# Altium integrated library TI_Logic_Specialty_Logic.IntLib: 2504 symbols (part 50 of 81)
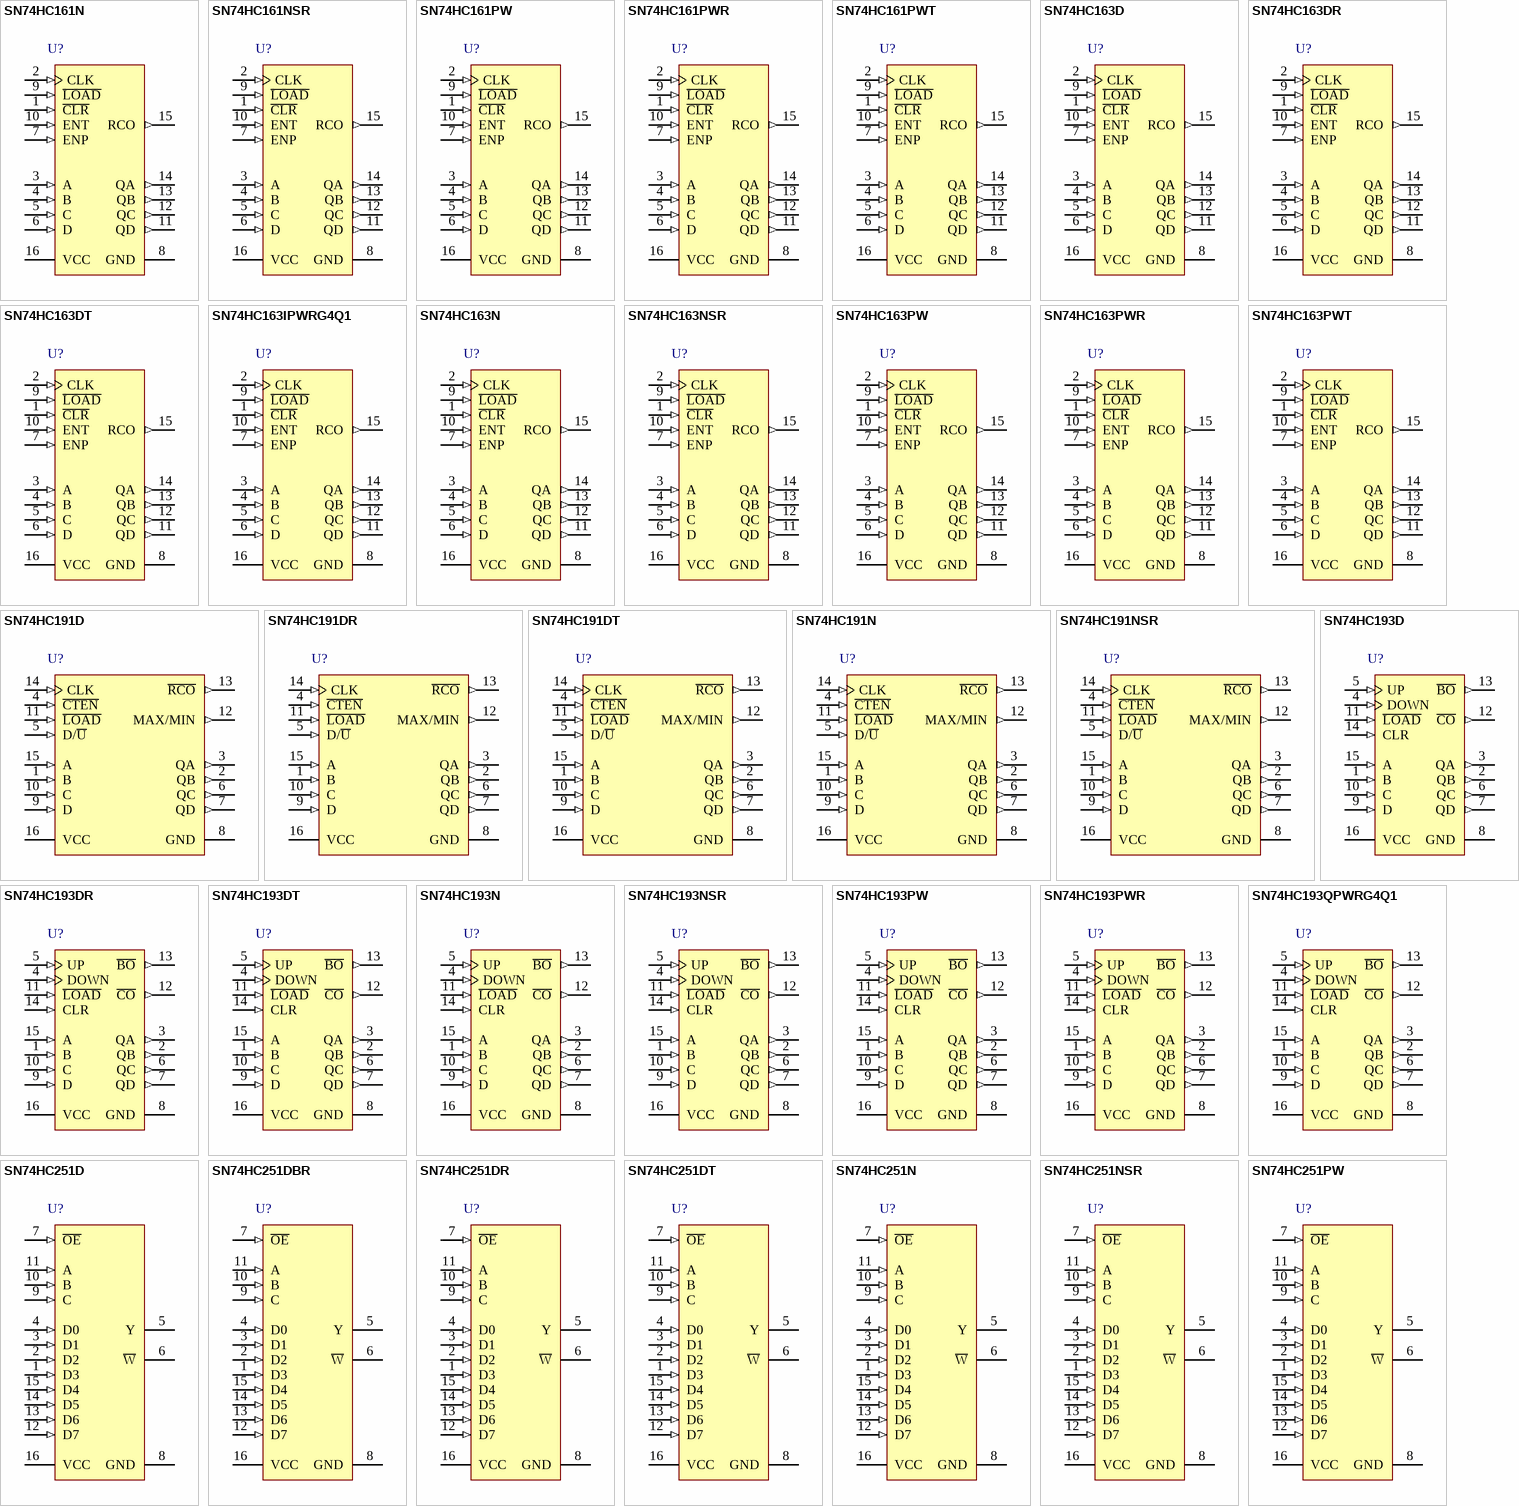
[diagram p153: symbols SN74HC161N to SN74HC251PW]

## SN74HC251DT
designator U?
Data Selectors/Multiplexers With 3-State Outputs, D0016A, SMALL T&R; Generic Part Number: SN74HC251; Manufacturer: Texas Instruments; PartNumber: SN74HC251DT; VCC(Min)(V): 2; VCC(Max)(V): 6; Output Type: CMOS; Function: Encoder/Multiplexer; ICC @ Nom Voltage(Max)(mA): 0.08; Input Type: LVTTL/CMOS; Bits(#): 8; F @ Nom Voltage(Max)(Mhz): 28; Configuration: 8：1; Channels(#): 1; Rating: Catalog; Technology Family: HC; Voltage(Nom)(V): 3.3,5; Schmitt Trigger: No; Output Drive (IOL/IOH)(Max)(mA): 7.8/-7.8; tpd @ Nom Voltage(Max)(ns): 51; DatasheetVersion: SCLS132E; PackageReference: D0016A; Supplier 1: Mouser; Supplier Part Number 1: 595-SN74HC251DT; Supplier 2: Digi-Key; Supplier Part Number 2: SN74HC251DT-ND; Operating Temperature Range(C): -40 to 85; Type: 3-State Output; Code_JEDEC: MS-012 variation AC; ComponentLink1Description: Manufacturer URL; ComponentLink1URL: http://www.ti.com/; ComponentLink2Description: Datasheet; ComponentLink2URL: http://www.ti.com/lit/ds/symlink/sn74hc251.pdf; ComponentLink3Description: Package Specification; ComponentLink3URL: http://www.ti.com/lit/ml/mpds178g/mpds178g.pdf
footprint D0016A_N (SOIC, 16-Leads, Body 10x4mm, Pitch 1.27mm, IPC Medium Density)
footprint D0016A_M (SOIC, 16-Leads, Body 10x4mm, Pitch 1.27mm, IPC Low Density)
footprint D0016A_L (SOIC, 16-Leads, Body 10x4mm, Pitch 1.27mm, IPC High Density)
pins: 1 D3 (in), 2 D2 (in), 3 D1 (in), 4 D0 (in), 5 Y (hiz), 6 ~{W} (hiz), 7 ~{OE} (in), 8 GND (power), 9 C (in), 10 B (in), 11 A (in), 12 D7 (in), 13 D6 (in), 14 D5 (in), 15 D4 (in), 16 VCC (power)

## SN74HC251N
designator U?
Data Selectors/Multiplexers With 3-State Outputs, N0016A, TUBE; Generic Part Number: SN74HC251; Manufacturer: Texas Instruments; PartNumber: SN74HC251N; VCC(Min)(V): 2; VCC(Max)(V): 6; Output Type: CMOS; Function: Encoder/Multiplexer; ICC @ Nom Voltage(Max)(mA): 0.08; Input Type: LVTTL/CMOS; Bits(#): 8; F @ Nom Voltage(Max)(Mhz): 28; Configuration: 8：1; Channels(#): 1; Rating: Catalog; Technology Family: HC; Voltage(Nom)(V): 3.3,5; Schmitt Trigger: No; Output Drive (IOL/IOH)(Max)(mA): 7.8/-7.8; tpd @ Nom Voltage(Max)(ns): 51; DatasheetVersion: SCLS132E; PackageReference: N0016A; Supplier 1: Mouser; Supplier Part Number 1: 595-SN74HC251N; Supplier 2: Digi-Key; Supplier Part Number 2: 296-1585-5-ND; Operating Temperature Range(C): -40 to 85; Type: 3-State Output; Code_JEDEC: MS-001; ComponentLink1Description: Manufacturer URL; ComponentLink1URL: http://www.ti.com/; ComponentLink2Description: Datasheet; ComponentLink2URL: http://www.ti.com/lit/ds/symlink/sn74hc251.pdf; ComponentLink3Description: Package Specification; ComponentLink3URL: http://www.ti.com/lit/ml/mpdi002c/mpdi002c.pdf
footprint N0016A (DIP, 16-Leads, Body 19.7x6.6mm, Pitch 2.54mm)
pins: 1 D3 (in), 2 D2 (in), 3 D1 (in), 4 D0 (in), 5 Y (hiz), 6 ~{W} (hiz), 7 ~{OE} (in), 8 GND (power), 9 C (in), 10 B (in), 11 A (in), 12 D7 (in), 13 D6 (in), 14 D5 (in), 15 D4 (in), 16 VCC (power)

## SN74HC251NSR
designator U?
Data Selectors/Multiplexers With 3-State Outputs, NS0016A, LARGE T&R; Generic Part Number: SN74HC251; Manufacturer: Texas Instruments; PartNumber: SN74HC251NSR; VCC(Min)(V): 2; VCC(Max)(V): 6; Output Type: CMOS; Function: Encoder/Multiplexer; ICC @ Nom Voltage(Max)(mA): 0.08; Input Type: LVTTL/CMOS; Bits(#): 8; F @ Nom Voltage(Max)(Mhz): 28; Configuration: 8：1; Channels(#): 1; Rating: Catalog; Technology Family: HC; Voltage(Nom)(V): 3.3,5; Schmitt Trigger: No; Output Drive (IOL/IOH)(Max)(mA): 7.8/-7.8; tpd @ Nom Voltage(Max)(ns): 51; DatasheetVersion: SCLS132E; PackageReference: NS0016A; Supplier 1: Mouser; Supplier Part Number 1: 595-SN74HC251NSR; Supplier 2: Digi-Key; Supplier Part Number 2: 296-13217-2-ND; Supplier 3: Digi-Key; Supplier Part Number 3: 296-13217-1-ND; Supplier 4: Digi-Key; Supplier Part Number 4: 296-13217-6-ND; Operating Temperature Range(C): -40 to 85; Type: 3-State Output; ComponentLink1Description: Manufacturer URL; ComponentLink1URL: http://www.ti.com/; ComponentLink2Description: Datasheet; ComponentLink2URL: http://www.ti.com/lit/ds/symlink/sn74hc251.pdf; ComponentLink3Description: Package Specification; ComponentLink3URL: http://www.ti.com/lit/ml/msop002a/msop002a.pdf
footprint NS0016A_N (SOIC,16-Leads,Body 10.5x5.6mm,Pitch 1.27mm,IPC Medium Density)
footprint NS0016A_M (SOIC,16-Leads,Body 10.5x5.6mm,Pitch 1.27mm,IPC Low Density)
footprint NS0016A_L (SOIC,16-Leads,Body 10.5x5.6mm,Pitch 1.27mm,IPC High Density)
pins: 1 D3 (in), 2 D2 (in), 3 D1 (in), 4 D0 (in), 5 Y (hiz), 6 ~{W} (hiz), 7 ~{OE} (in), 8 GND (power), 9 C (in), 10 B (in), 11 A (in), 12 D7 (in), 13 D6 (in), 14 D5 (in), 15 D4 (in), 16 VCC (power)

## SN74HC251PW
designator U?
Data Selectors/Multiplexers With 3-State Outputs, PW0016A, TUBE; Generic Part Number: SN74HC251; Manufacturer: Texas Instruments; PartNumber: SN74HC251PW; VCC(Min)(V): 2; VCC(Max)(V): 6; Output Type: CMOS; Function: Encoder/Multiplexer; ICC @ Nom Voltage(Max)(mA): 0.08; Input Type: LVTTL/CMOS; Bits(#): 8; F @ Nom Voltage(Max)(Mhz): 28; Configuration: 8：1; Channels(#): 1; Rating: Catalog; Technology Family: HC; Voltage(Nom)(V): 3.3,5; Schmitt Trigger: No; Output Drive (IOL/IOH)(Max)(mA): 7.8/-7.8; tpd @ Nom Voltage(Max)(ns): 51; DatasheetVersion: SCLS132E; PackageReference: PW0016A; Supplier 1: Mouser; Supplier Part Number 1: 595-SN74HC251PW; Supplier 2: Digi-Key; Supplier Part Number 2: 296-33929-5-ND; Operating Temperature Range(C): -40 to 85; Type: 3-State Output; Code_JEDEC: MO-153; ComponentLink1Description: Manufacturer URL; ComponentLink1URL: http://www.ti.com/; ComponentLink2Description: Datasheet; ComponentLink2URL: http://www.ti.com/lit/ds/symlink/sn74hc251.pdf; ComponentLink3Description: Package Specification; ComponentLink3URL: http://www.ti.com/lit/ml/mpds361/mpds361.pdf
footprint PW0016A_N (SOP, 16-Leads, Body 5.1x4.5mm, Pitch 0.65mm, IPC Medium Density)
footprint PW0016A_M (SOP, 16-Leads, Body 5.1x4.5mm, Pitch 0.65mm, IPC Low Density)
footprint PW0016A_L (SOP, 16-Leads, Body 5.1x4.5mm, Pitch 0.65mm, IPC High Density)
pins: 1 D3 (in), 2 D2 (in), 3 D1 (in), 4 D0 (in), 5 Y (hiz), 6 ~{W} (hiz), 7 ~{OE} (in), 8 GND (power), 9 C (in), 10 B (in), 11 A (in), 12 D7 (in), 13 D6 (in), 14 D5 (in), 15 D4 (in), 16 VCC (power)

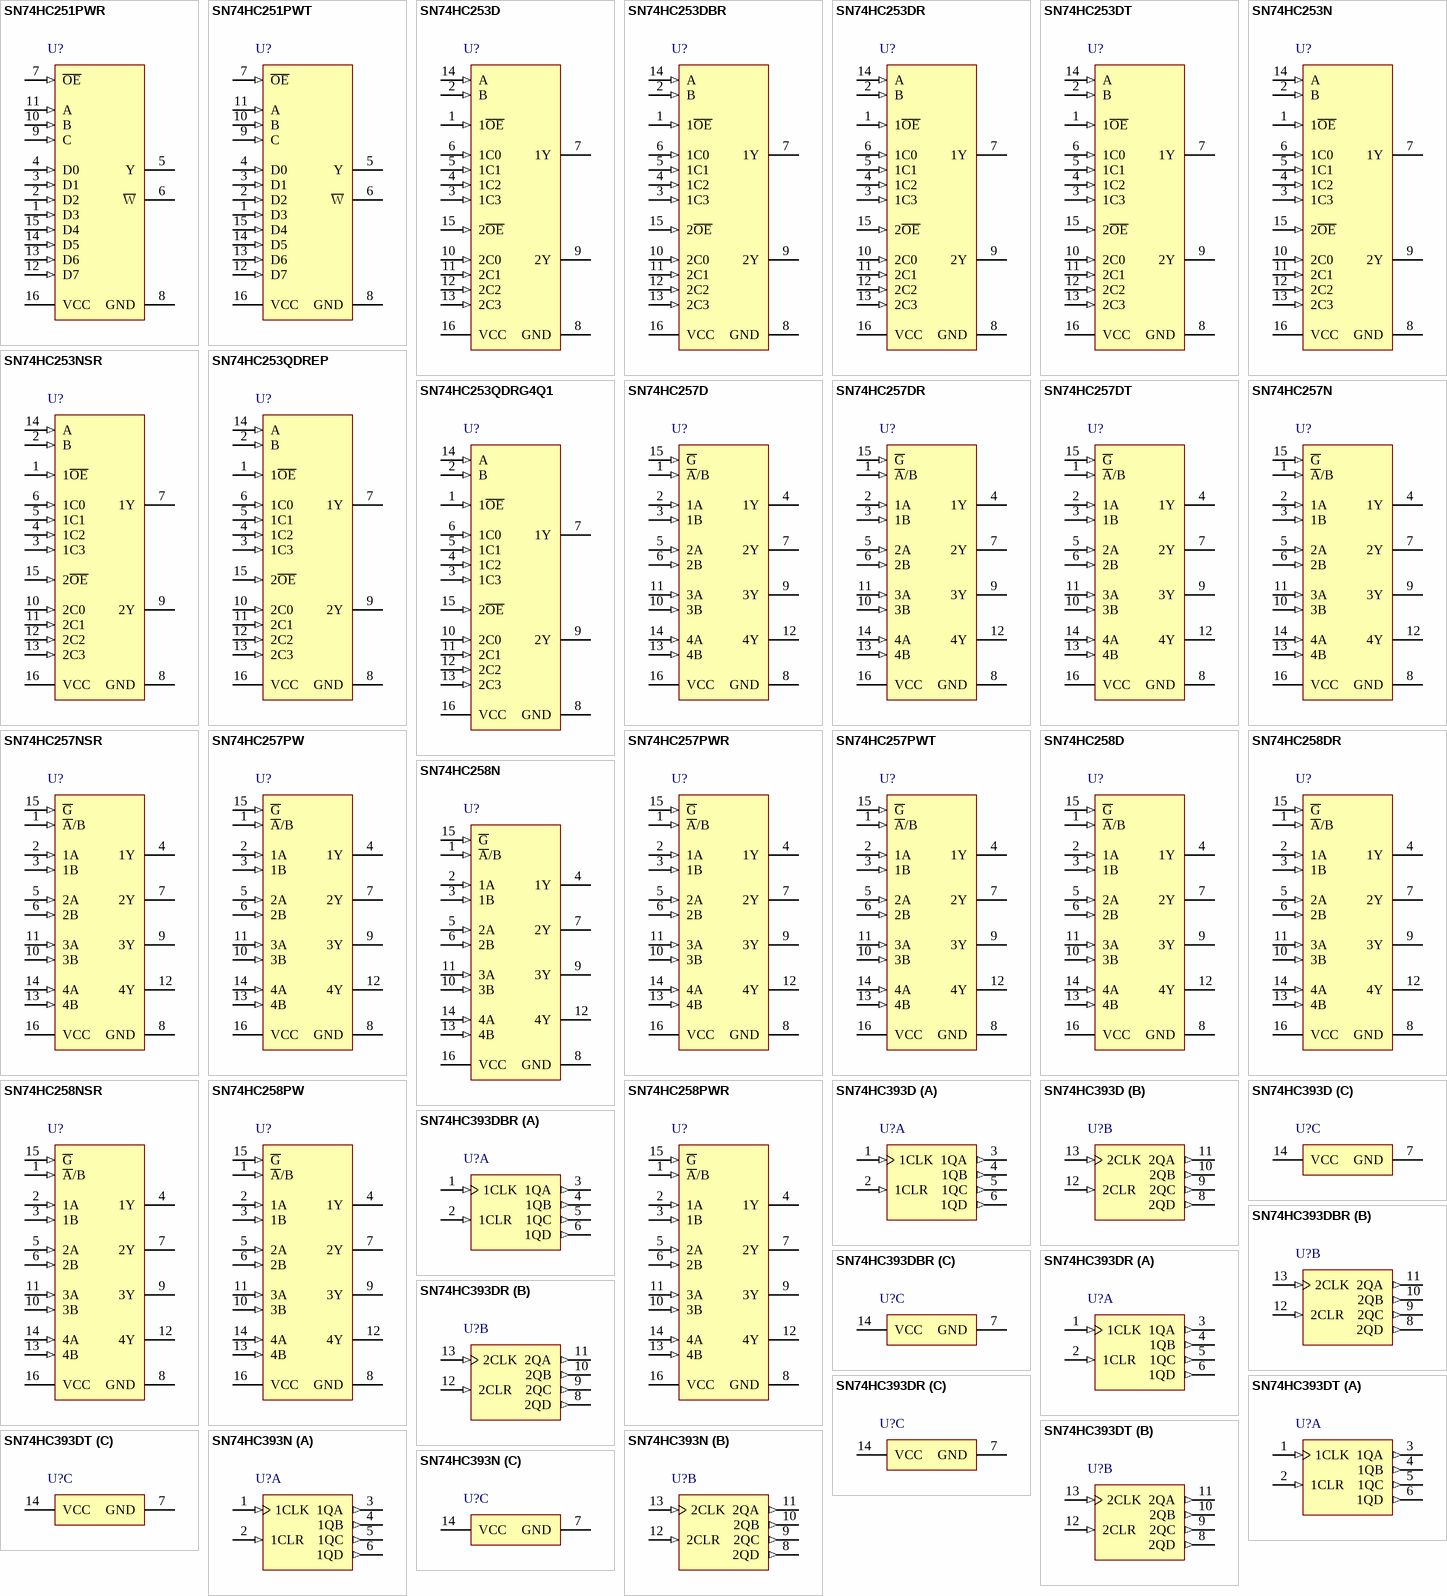
[diagram p63: symbols SN74HC251PWR to SN74HC393N]

## SN74HC251PWR
designator U?
Data Selectors/Multiplexers With 3-State Outputs, PW0016A, LARGE T&R; Generic Part Number: SN74HC251; Manufacturer: Texas Instruments; PartNumber: SN74HC251PWR; VCC(Min)(V): 2; VCC(Max)(V): 6; Output Type: CMOS; Function: Encoder/Multiplexer; ICC @ Nom Voltage(Max)(mA): 0.08; Input Type: LVTTL/CMOS; Bits(#): 8; F @ Nom Voltage(Max)(Mhz): 28; Configuration: 8：1; Channels(#): 1; Rating: Catalog; Technology Family: HC; Voltage(Nom)(V): 3.3,5; Schmitt Trigger: No; Output Drive (IOL/IOH)(Max)(mA): 7.8/-7.8; tpd @ Nom Voltage(Max)(ns): 51; DatasheetVersion: SCLS132E; PackageReference: PW0016A; Supplier 1: Mouser; Supplier Part Number 1: 595-SN74HC251PWR; Supplier 2: Digi-Key; Supplier Part Number 2: 296-39203-2-ND; Supplier 3: Digi-Key; Supplier Part Number 3: 296-39203-1-ND; Supplier 4: Digi-Key; Supplier Part Number 4: 296-39203-6-ND; Operating Temperature Range(C): -40 to 85; Type: 3-State Output; Code_JEDEC: MO-153; ComponentLink1Description: Manufacturer URL; ComponentLink1URL: http://www.ti.com/; ComponentLink2Description: Datasheet; ComponentLink2URL: http://www.ti.com/lit/ds/symlink/sn74hc251.pdf; ComponentLink3Description: Package Specification; ComponentLink3URL: http://www.ti.com/lit/ml/mpds361/mpds361.pdf
footprint PW0016A_N (SOP, 16-Leads, Body 5.1x4.5mm, Pitch 0.65mm, IPC Medium Density)
footprint PW0016A_M (SOP, 16-Leads, Body 5.1x4.5mm, Pitch 0.65mm, IPC Low Density)
footprint PW0016A_L (SOP, 16-Leads, Body 5.1x4.5mm, Pitch 0.65mm, IPC High Density)
pins: 1 D3 (in), 2 D2 (in), 3 D1 (in), 4 D0 (in), 5 Y (hiz), 6 ~{W} (hiz), 7 ~{OE} (in), 8 GND (power), 9 C (in), 10 B (in), 11 A (in), 12 D7 (in), 13 D6 (in), 14 D5 (in), 15 D4 (in), 16 VCC (power)

## SN74HC251PWT
designator U?
Data Selectors/Multiplexers With 3-State Outputs, PW0016A, SMALL T&R; Generic Part Number: SN74HC251; Manufacturer: Texas Instruments; PartNumber: SN74HC251PWT; VCC(Min)(V): 2; VCC(Max)(V): 6; Output Type: CMOS; Function: Encoder/Multiplexer; ICC @ Nom Voltage(Max)(mA): 0.08; Input Type: LVTTL/CMOS; Bits(#): 8; F @ Nom Voltage(Max)(Mhz): 28; Configuration: 8：1; Channels(#): 1; Rating: Catalog; Technology Family: HC; Voltage(Nom)(V): 3.3,5; Schmitt Trigger: No; Output Drive (IOL/IOH)(Max)(mA): 7.8/-7.8; tpd @ Nom Voltage(Max)(ns): 51; DatasheetVersion: SCLS132E; PackageReference: PW0016A; Supplier 1: Mouser; Supplier Part Number 1: 595-SN74HC251PWT; Supplier 2: Digi-Key; Supplier Part Number 2: 296-28659-2-ND; Supplier 3: Digi-Key; Supplier Part Number 3: 296-28659-1-ND; Supplier 4: Digi-Key; Supplier Part Number 4: 296-28659-6-ND; Operating Temperature Range(C): -40 to 85; Type: 3-State Output; Code_JEDEC: MO-153; ComponentLink1Description: Manufacturer URL; ComponentLink1URL: http://www.ti.com/; ComponentLink2Description: Datasheet; ComponentLink2URL: http://www.ti.com/lit/ds/symlink/sn74hc251.pdf; ComponentLink3Description: Package Specification; ComponentLink3URL: http://www.ti.com/lit/ml/mpds361/mpds361.pdf
footprint PW0016A_N (SOP, 16-Leads, Body 5.1x4.5mm, Pitch 0.65mm, IPC Medium Density)
footprint PW0016A_M (SOP, 16-Leads, Body 5.1x4.5mm, Pitch 0.65mm, IPC Low Density)
footprint PW0016A_L (SOP, 16-Leads, Body 5.1x4.5mm, Pitch 0.65mm, IPC High Density)
pins: 1 D3 (in), 2 D2 (in), 3 D1 (in), 4 D0 (in), 5 Y (hiz), 6 ~{W} (hiz), 7 ~{OE} (in), 8 GND (power), 9 C (in), 10 B (in), 11 A (in), 12 D7 (in), 13 D6 (in), 14 D5 (in), 15 D4 (in), 16 VCC (power)

## SN74HC253D
designator U?
Dual 4-Line To 1-Line Data Selectors/Multiplexers With 3-State Outputs, D0016A, TUBE; Generic Part Number: SN74HC253; Manufacturer: Texas Instruments; PartNumber: SN74HC253D; VCC(Min)(V): 2; VCC(Max)(V): 6; Output Type: CMOS; Function: Encoder/Multiplexer; ICC @ Nom Voltage(Max)(mA): 0.08; Input Type: LVTTL/CMOS; Bits(#): 4; F @ Nom Voltage(Max)(Mhz): 28; Configuration: 4：1; Rating: Catalog; Technology Family: HC; Voltage(Nom)(V): 3.3,5; Schmitt Trigger: No; Output Drive (IOL/IOH)(Max)(mA): 7.8/-7.8; tpd @ Nom Voltage(Max)(ns): 38; DatasheetVersion: SCLS133E; PackageReference: D0016A; Supplier 1: Mouser; Supplier Part Number 1: 595-SN74HC253D; Supplier 2: Digi-Key; Supplier Part Number 2: 296-8281-5-ND; Operating Temperature Range(C): -40 to 85; Type: 3-State Output; Channels(#): 2; Code_JEDEC: MS-012 variation AC; ComponentLink1Description: Manufacturer URL; ComponentLink1URL: http://www.ti.com/; ComponentLink2Description: Datasheet; ComponentLink2URL: http://www.ti.com/lit/ds/symlink/sn74hc253.pdf; ComponentLink3Description: Package Specification; ComponentLink3URL: http://www.ti.com/lit/ml/mpds178g/mpds178g.pdf
footprint D0016A_N (SOIC, 16-Leads, Body 10x4mm, Pitch 1.27mm, IPC Medium Density)
footprint D0016A_M (SOIC, 16-Leads, Body 10x4mm, Pitch 1.27mm, IPC Low Density)
footprint D0016A_L (SOIC, 16-Leads, Body 10x4mm, Pitch 1.27mm, IPC High Density)
pins: 1 1~{OE} (in), 2 B (in), 3 1C3 (in), 4 1C2 (in), 5 1C1 (in), 6 1C0 (in), 7 1Y (hiz), 8 GND (power), 9 2Y (hiz), 10 2C0 (in), 11 2C1 (in), 12 2C2 (in), 13 2C3 (in), 14 A (in), 15 2~{OE} (in), 16 VCC (power)

## SN74HC253DBR
designator U?
Dual 4-Line To 1-Line Data Selectors/Multiplexers With 3-State Outputs, DB0016A, LARGE T&R; Generic Part Number: SN74HC253; Manufacturer: Texas Instruments; PartNumber: SN74HC253DBR; VCC(Min)(V): 2; VCC(Max)(V): 6; Output Type: CMOS; Function: Encoder/Multiplexer; ICC @ Nom Voltage(Max)(mA): 0.08; Input Type: LVTTL/CMOS; Bits(#): 4; F @ Nom Voltage(Max)(Mhz): 28; Configuration: 4：1; Rating: Catalog; Technology Family: HC; Voltage(Nom)(V): 3.3,5; Schmitt Trigger: No; Output Drive (IOL/IOH)(Max)(mA): 7.8/-7.8; tpd @ Nom Voltage(Max)(ns): 38; DatasheetVersion: SCLS133E; PackageReference: DB0016A; Supplier 1: Mouser; Supplier Part Number 1: 595-SN74HC253DBR; Supplier 2: Digi-Key; Supplier Part Number 2: 296-8282-2-ND; Supplier 3: Digi-Key; Supplier Part Number 3: 296-8282-1-ND; Supplier 4: Digi-Key; Supplier Part Number 4: 296-8282-6-ND; Operating Temperature Range(C): -40 to 85; Type: 3-State Output; Channels(#): 2; Code_JEDEC: MO-150; ComponentLink1Description: Manufacturer URL; ComponentLink1URL: http://www.ti.com/; ComponentLink2Description: Datasheet; ComponentLink2URL: http://www.ti.com/lit/ds/symlink/sn74hc253.pdf; ComponentLink3Description: Package Specification; ComponentLink3URL: http://www.ti.com/lit/ml/mpds507/mpds507.pdf
footprint DB0016A_N (SOP, 16-Leads, Body 5.6x6.5mm, Pitch 0.65mm, IPC Medium Density)
footprint DB0016A_M (SOP, 16-Leads, Body 5.6x6.5mm, Pitch 0.65mm, IPC Low Density)
footprint DB0016A_L (SOP, 16-Leads, Body 5.6x6.5mm, Pitch 0.65mm, IPC High Density)
pins: 1 1~{OE} (in), 2 B (in), 3 1C3 (in), 4 1C2 (in), 5 1C1 (in), 6 1C0 (in), 7 1Y (hiz), 8 GND (power), 9 2Y (hiz), 10 2C0 (in), 11 2C1 (in), 12 2C2 (in), 13 2C3 (in), 14 A (in), 15 2~{OE} (in), 16 VCC (power)

## SN74HC253DR
designator U?
Dual 4-Line To 1-Line Data Selectors/Multiplexers With 3-State Outputs, D0016A, LARGE T&R; Generic Part Number: SN74HC253; Manufacturer: Texas Instruments; PartNumber: SN74HC253DR; VCC(Min)(V): 2; VCC(Max)(V): 6; Output Type: CMOS; Function: Encoder/Multiplexer; ICC @ Nom Voltage(Max)(mA): 0.08; Input Type: LVTTL/CMOS; Bits(#): 4; F @ Nom Voltage(Max)(Mhz): 28; Configuration: 4：1; Rating: Catalog; Technology Family: HC; Voltage(Nom)(V): 3.3,5; Schmitt Trigger: No; Output Drive (IOL/IOH)(Max)(mA): 7.8/-7.8; tpd @ Nom Voltage(Max)(ns): 38; DatasheetVersion: SCLS133E; PackageReference: D0016A; Supplier 1: Mouser; Supplier Part Number 1: 595-SN74HC253DR; Supplier 2: Digi-Key; Supplier Part Number 2: 296-14845-2-ND; Supplier 3: Digi-Key; Supplier Part Number 3: 296-14845-1-ND; Supplier 4: Digi-Key; Supplier Part Number 4: 296-14845-6-ND; Operating Temperature Range(C): -40 to 85; Type: 3-State Output; Channels(#): 2; Code_JEDEC: MS-012 variation AC; ComponentLink1Description: Manufacturer URL; ComponentLink1URL: http://www.ti.com/; ComponentLink2Description: Datasheet; ComponentLink2URL: http://www.ti.com/lit/ds/symlink/sn74hc253.pdf; ComponentLink3Description: Package Specification; ComponentLink3URL: http://www.ti.com/lit/ml/mpds178g/mpds178g.pdf
footprint D0016A_N (SOIC, 16-Leads, Body 10x4mm, Pitch 1.27mm, IPC Medium Density)
footprint D0016A_M (SOIC, 16-Leads, Body 10x4mm, Pitch 1.27mm, IPC Low Density)
footprint D0016A_L (SOIC, 16-Leads, Body 10x4mm, Pitch 1.27mm, IPC High Density)
pins: 1 1~{OE} (in), 2 B (in), 3 1C3 (in), 4 1C2 (in), 5 1C1 (in), 6 1C0 (in), 7 1Y (hiz), 8 GND (power), 9 2Y (hiz), 10 2C0 (in), 11 2C1 (in), 12 2C2 (in), 13 2C3 (in), 14 A (in), 15 2~{OE} (in), 16 VCC (power)

## SN74HC253DT
designator U?
Dual 4-Line To 1-Line Data Selectors/Multiplexers With 3-State Outputs, D0016A, SMALL T&R; Generic Part Number: SN74HC253; Manufacturer: Texas Instruments; PartNumber: SN74HC253DT; VCC(Min)(V): 2; VCC(Max)(V): 6; Output Type: CMOS; Function: Encoder/Multiplexer; ICC @ Nom Voltage(Max)(mA): 0.08; Input Type: LVTTL/CMOS; Bits(#): 4; F @ Nom Voltage(Max)(Mhz): 28; Configuration: 4：1; Rating: Catalog; Technology Family: HC; Voltage(Nom)(V): 3.3,5; Schmitt Trigger: No; Output Drive (IOL/IOH)(Max)(mA): 7.8/-7.8; tpd @ Nom Voltage(Max)(ns): 38; DatasheetVersion: SCLS133E; PackageReference: D0016A; Supplier 1: Mouser; Supplier Part Number 1: 595-SN74HC253DT; Supplier 2: Digi-Key; Supplier Part Number 2: SN74HC253DT-ND; Operating Temperature Range(C): -40 to 85; Type: 3-State Output; Channels(#): 2; Code_JEDEC: MS-012 variation AC; ComponentLink1Description: Manufacturer URL; ComponentLink1URL: http://www.ti.com/; ComponentLink2Description: Datasheet; ComponentLink2URL: http://www.ti.com/lit/ds/symlink/sn74hc253.pdf; ComponentLink3Description: Package Specification; ComponentLink3URL: http://www.ti.com/lit/ml/mpds178g/mpds178g.pdf
footprint D0016A_N (SOIC, 16-Leads, Body 10x4mm, Pitch 1.27mm, IPC Medium Density)
footprint D0016A_M (SOIC, 16-Leads, Body 10x4mm, Pitch 1.27mm, IPC Low Density)
footprint D0016A_L (SOIC, 16-Leads, Body 10x4mm, Pitch 1.27mm, IPC High Density)
pins: 1 1~{OE} (in), 2 B (in), 3 1C3 (in), 4 1C2 (in), 5 1C1 (in), 6 1C0 (in), 7 1Y (hiz), 8 GND (power), 9 2Y (hiz), 10 2C0 (in), 11 2C1 (in), 12 2C2 (in), 13 2C3 (in), 14 A (in), 15 2~{OE} (in), 16 VCC (power)

## SN74HC253N
designator U?
Dual 4-Line To 1-Line Data Selectors/Multiplexers With 3-State Outputs, N0016A, TUBE; Generic Part Number: SN74HC253; Manufacturer: Texas Instruments; PartNumber: SN74HC253N; VCC(Min)(V): 2; VCC(Max)(V): 6; Output Type: CMOS; Function: Encoder/Multiplexer; ICC @ Nom Voltage(Max)(mA): 0.08; Input Type: LVTTL/CMOS; Bits(#): 4; F @ Nom Voltage(Max)(Mhz): 28; Configuration: 4：1; Rating: Catalog; Technology Family: HC; Voltage(Nom)(V): 3.3,5; Schmitt Trigger: No; Output Drive (IOL/IOH)(Max)(mA): 7.8/-7.8; tpd @ Nom Voltage(Max)(ns): 38; DatasheetVersion: SCLS133E; PackageReference: N0016A; Supplier 1: Mouser; Supplier Part Number 1: 595-SN74HC253N; Supplier 2: Digi-Key; Supplier Part Number 2: 296-8283-5-ND; Operating Temperature Range(C): -40 to 85; Type: 3-State Output; Channels(#): 2; Code_JEDEC: MS-001; ComponentLink1Description: Manufacturer URL; ComponentLink1URL: http://www.ti.com/; ComponentLink2Description: Datasheet; ComponentLink2URL: http://www.ti.com/lit/ds/symlink/sn74hc253.pdf; ComponentLink3Description: Package Specification; ComponentLink3URL: http://www.ti.com/lit/ml/mpdi002c/mpdi002c.pdf
footprint N0016A (DIP, 16-Leads, Body 19.7x6.6mm, Pitch 2.54mm)
pins: 1 1~{OE} (in), 2 B (in), 3 1C3 (in), 4 1C2 (in), 5 1C1 (in), 6 1C0 (in), 7 1Y (hiz), 8 GND (power), 9 2Y (hiz), 10 2C0 (in), 11 2C1 (in), 12 2C2 (in), 13 2C3 (in), 14 A (in), 15 2~{OE} (in), 16 VCC (power)

## SN74HC253NSR
designator U?
Dual 4-Line To 1-Line Data Selectors/Multiplexers With 3-State Outputs, NS0016A, LARGE T&R; Generic Part Number: SN74HC253; Manufacturer: Texas Instruments; PartNumber: SN74HC253NSR; VCC(Min)(V): 2; VCC(Max)(V): 6; Output Type: CMOS; Function: Encoder/Multiplexer; ICC @ Nom Voltage(Max)(mA): 0.08; Input Type: LVTTL/CMOS; Bits(#): 4; F @ Nom Voltage(Max)(Mhz): 28; Configuration: 4：1; Rating: Catalog; Technology Family: HC; Voltage(Nom)(V): 3.3,5; Schmitt Trigger: No; Output Drive (IOL/IOH)(Max)(mA): 7.8/-7.8; tpd @ Nom Voltage(Max)(ns): 38; DatasheetVersion: SCLS133E; PackageReference: NS0016A; Supplier 1: Mouser; Supplier Part Number 1: 595-SN74HC253NSR; Supplier 2: Digi-Key; Supplier Part Number 2: 296-28804-2-ND; Supplier 3: Digi-Key; Supplier Part Number 3: 296-28804-1-ND; Supplier 4: Digi-Key; Supplier Part Number 4: 296-28804-6-ND; Operating Temperature Range(C): -40 to 85; Type: 3-State Output; Channels(#): 2; ComponentLink1Description: Manufacturer URL; ComponentLink1URL: http://www.ti.com/; ComponentLink2Description: Datasheet; ComponentLink2URL: http://www.ti.com/lit/ds/symlink/sn74hc253.pdf; ComponentLink3Description: Package Specification; ComponentLink3URL: http://www.ti.com/lit/ml/msop002a/msop002a.pdf
footprint NS0016A_N (SOIC,16-Leads,Body 10.5x5.6mm,Pitch 1.27mm,IPC Medium Density)
footprint NS0016A_M (SOIC,16-Leads,Body 10.5x5.6mm,Pitch 1.27mm,IPC Low Density)
footprint NS0016A_L (SOIC,16-Leads,Body 10.5x5.6mm,Pitch 1.27mm,IPC High Density)
pins: 1 1~{OE} (in), 2 B (in), 3 1C3 (in), 4 1C2 (in), 5 1C1 (in), 6 1C0 (in), 7 1Y (hiz), 8 GND (power), 9 2Y (hiz), 10 2C0 (in), 11 2C1 (in), 12 2C2 (in), 13 2C3 (in), 14 A (in), 15 2~{OE} (in), 16 VCC (power)

## SN74HC253QDREP
designator U?
Enhanced Product Dual 4-Line To 1-Line Data Selectors/Multiplexers With 3-State Outputs, D0016A, LARGE T&R; Generic Part Number: SN74HC253-EP; Manufacturer: Texas Instruments; PartNumber: SN74HC253QDREP; VCC(Min)(V): 2; VCC(Max)(V): 6; ICC @ Nom Voltage(Max)(mA): 0.08; F @ Nom Voltage(Max)(Mhz): 28; Rating: HiRel Enhanced Product; Technology Family: HC; Schmitt Trigger: No; Output Drive (IOL/IOH)(Max)(mA): 7.8/-7/8; tpd @ Nom Voltage(Max)(ns): 38; DatasheetVersion: SCLS560; PackageReference: D0016A; Supplier 1: Mouser; Supplier Part Number 1: 595-SN74HC253QDREP; Supplier 2: Digi-Key; Supplier Part Number 2: 296-22302-2-ND; Supplier 3: Digi-Key; Supplier Part Number 3: 296-22302-1-ND; Supplier 4: Digi-Key; Supplier Part Number 4: 296-22302-6-ND; Operating Temperature Range(C): -40 to 125; Type: 3-State Output; Channels(#): 2; Voltage(Nom)(V): 6; Code_JEDEC: MS-012 variation AC; ComponentLink1Description: Manufacturer URL; ComponentLink1URL: http://www.ti.com/; ComponentLink2Description: Datasheet; ComponentLink2URL: http://www.ti.com/lit/ds/symlink/sn74hc253-ep.pdf; ComponentLink3Description: Package Specification; ComponentLink3URL: http://www.ti.com/lit/ml/mpds178g/mpds178g.pdf
footprint D0016A_N (SOIC, 16-Leads, Body 10x4mm, Pitch 1.27mm, IPC Medium Density)
footprint D0016A_M (SOIC, 16-Leads, Body 10x4mm, Pitch 1.27mm, IPC Low Density)
footprint D0016A_L (SOIC, 16-Leads, Body 10x4mm, Pitch 1.27mm, IPC High Density)
pins: 1 1~{OE} (in), 2 B (in), 3 1C3 (in), 4 1C2 (in), 5 1C1 (in), 6 1C0 (in), 7 1Y (hiz), 8 GND (power), 9 2Y (hiz), 10 2C0 (in), 11 2C1 (in), 12 2C2 (in), 13 2C3 (in), 14 A (in), 15 2~{OE} (in), 16 VCC (power)

## SN74HC253QDRG4Q1
designator U?
Automotive Catalog Dual 4-Line To 1-Line Data Selectors/Multiplexers With 3-State Outputs, D0016A, LARGE T&R; Generic Part Number: SN74HC253-Q1; Manufacturer: Texas Instruments; PartNumber: SN74HC253QDRG4Q1; VCC(Min)(V): 2; VCC(Max)(V): 6; Output Type: CMOS; ICC @ Nom Voltage(Max)(mA): 0.08; Input Type: LVTTL/CMOS; Bits(#): 4; F @ Nom Voltage(Max)(Mhz): 28; Technology Family: HC; Voltage(Nom)(V): 3.3,5; Schmitt Trigger: No; Output Drive (IOL/IOH)(Max)(mA): 7.8/-7/8; tpd @ Nom Voltage(Max)(ns): 38; DatasheetVersion: SCLS519A; PackageReference: D0016A; Supplier 1: Mouser; Supplier Part Number 1: 595-SN74HC253QDRG4Q1; Supplier 2: Digi-Key; Supplier Part Number 2: SN74HC253QDRG4Q1-ND; Operating Temperature Range(C): -40 to 125; Type: 3-State Output; Channels(#): 2; Rating: Automotive; Code_JEDEC: MS-012 variation AC; ComponentLink1Description: Manufacturer URL; ComponentLink1URL: http://www.ti.com/; ComponentLink2Description: Datasheet; ComponentLink2URL: http://www.ti.com/lit/ds/symlink/sn74hc253-q1.pdf; ComponentLink3Description: Package Specification; ComponentLink3URL: http://www.ti.com/lit/ml/mpds178g/mpds178g.pdf
footprint D0016A_N (SOIC, 16-Leads, Body 10x4mm, Pitch 1.27mm, IPC Medium Density)
footprint D0016A_M (SOIC, 16-Leads, Body 10x4mm, Pitch 1.27mm, IPC Low Density)
footprint D0016A_L (SOIC, 16-Leads, Body 10x4mm, Pitch 1.27mm, IPC High Density)
pins: 1 1~{OE} (in), 2 B (in), 3 1C3 (in), 4 1C2 (in), 5 1C1 (in), 6 1C0 (in), 7 1Y (hiz), 8 GND (power), 9 2Y (hiz), 10 2C0 (in), 11 2C1 (in), 12 2C2 (in), 13 2C3 (in), 14 A (in), 15 2~{OE} (in), 16 VCC (power)

## SN74HC257D
designator U?
Quadruple 2-Line To 1-Line Data Selectors/Multiplexers With 3-State Outputs, D0016A, TUBE; Generic Part Number: SN74HC257; Manufacturer: Texas Instruments; PartNumber: SN74HC257D; VCC(Min)(V): 2; VCC(Max)(V): 6; Output Type: CMOS; Function: Encoder/Multiplexer; ICC @ Nom Voltage(Max)(mA): 0.08; Input Type: LVTTL/CMOS; F @ Nom Voltage(Max)(Mhz): 28; Configuration: 2：1; Channels(#): 4; Rating: Catalog; Technology Family: HC; Voltage(Nom)(V): 3.3,5; Schmitt Trigger: No; Output Drive (IOL/IOH)(Max)(mA): 7.8/-7.8; tpd @ Nom Voltage(Max)(ns): 25; DatasheetVersion: SCLS224B; PackageReference: D0016A; Supplier 1: Mouser; Supplier Part Number 1: 595-SN74HC257D; Supplier 2: Digi-Key; Supplier Part Number 2: 296-8284-5-ND; Bits(#): 2; Operating Temperature Range(C): -40 to 85; Type: 3-State Output; Code_JEDEC: MS-012 variation AC; ComponentLink1Description: Manufacturer URL; ComponentLink1URL: http://www.ti.com/; ComponentLink2Description: Datasheet; ComponentLink2URL: http://www.ti.com/lit/ds/symlink/sn74hc257.pdf; ComponentLink3Description: Package Specification; ComponentLink3URL: http://www.ti.com/lit/ml/mpds178g/mpds178g.pdf
footprint D0016A_N (SOIC, 16-Leads, Body 10x4mm, Pitch 1.27mm, IPC Medium Density)
footprint D0016A_M (SOIC, 16-Leads, Body 10x4mm, Pitch 1.27mm, IPC Low Density)
footprint D0016A_L (SOIC, 16-Leads, Body 10x4mm, Pitch 1.27mm, IPC High Density)
pins: 1 ~{A}/B (in), 2 1A (in), 3 1B (in), 4 1Y (hiz), 5 2A (in), 6 2B (in), 7 2Y (hiz), 8 GND (power), 9 3Y (hiz), 10 3B (in), 11 3A (in), 12 4Y (hiz), 13 4B (in), 14 4A (in), 15 ~{G} (in), 16 VCC (power)

## SN74HC257DR
designator U?
Quadruple 2-Line To 1-Line Data Selectors/Multiplexers With 3-State Outputs, D0016A, LARGE T&R; Generic Part Number: SN74HC257; Manufacturer: Texas Instruments; PartNumber: SN74HC257DR; VCC(Min)(V): 2; VCC(Max)(V): 6; Output Type: CMOS; Function: Encoder/Multiplexer; ICC @ Nom Voltage(Max)(mA): 0.08; Input Type: LVTTL/CMOS; F @ Nom Voltage(Max)(Mhz): 28; Configuration: 2：1; Channels(#): 4; Rating: Catalog; Technology Family: HC; Voltage(Nom)(V): 3.3,5; Schmitt Trigger: No; Output Drive (IOL/IOH)(Max)(mA): 7.8/-7.8; tpd @ Nom Voltage(Max)(ns): 25; DatasheetVersion: SCLS224B; PackageReference: D0016A; Supplier 1: Mouser; Supplier Part Number 1: 595-SN74HC257DR; Supplier 2: Digi-Key; Supplier Part Number 2: 296-14846-2-ND; Supplier 3: Digi-Key; Supplier Part Number 3: 296-14846-1-ND; Supplier 4: Digi-Key; Supplier Part Number 4: 296-14846-6-ND; Bits(#): 2; Operating Temperature Range(C): -40 to 85; Type: 3-State Output; Code_JEDEC: MS-012 variation AC; ComponentLink1Description: Manufacturer URL; ComponentLink1URL: http://www.ti.com/; ComponentLink2Description: Datasheet; ComponentLink2URL: http://www.ti.com/lit/ds/symlink/sn74hc257.pdf; ComponentLink3Description: Package Specification; ComponentLink3URL: http://www.ti.com/lit/ml/mpds178g/mpds178g.pdf
footprint D0016A_N (SOIC, 16-Leads, Body 10x4mm, Pitch 1.27mm, IPC Medium Density)
footprint D0016A_M (SOIC, 16-Leads, Body 10x4mm, Pitch 1.27mm, IPC Low Density)
footprint D0016A_L (SOIC, 16-Leads, Body 10x4mm, Pitch 1.27mm, IPC High Density)
pins: 1 ~{A}/B (in), 2 1A (in), 3 1B (in), 4 1Y (hiz), 5 2A (in), 6 2B (in), 7 2Y (hiz), 8 GND (power), 9 3Y (hiz), 10 3B (in), 11 3A (in), 12 4Y (hiz), 13 4B (in), 14 4A (in), 15 ~{G} (in), 16 VCC (power)

## SN74HC257DT
designator U?
Quadruple 2-Line To 1-Line Data Selectors/Multiplexers With 3-State Outputs, D0016A, SMALL T&R; Generic Part Number: SN74HC257; Manufacturer: Texas Instruments; PartNumber: SN74HC257DT; VCC(Min)(V): 2; VCC(Max)(V): 6; Output Type: CMOS; Function: Encoder/Multiplexer; ICC @ Nom Voltage(Max)(mA): 0.08; Input Type: LVTTL/CMOS; F @ Nom Voltage(Max)(Mhz): 28; Configuration: 2：1; Channels(#): 4; Rating: Catalog; Technology Family: HC; Voltage(Nom)(V): 3.3,5; Schmitt Trigger: No; Output Drive (IOL/IOH)(Max)(mA): 7.8/-7.8; tpd @ Nom Voltage(Max)(ns): 25; DatasheetVersion: SCLS224B; PackageReference: D0016A; Supplier 1: Mouser; Supplier Part Number 1: 595-SN74HC257DT; Supplier 2: Digi-Key; Supplier Part Number 2: SN74HC257DT-ND; Bits(#): 2; Operating Temperature Range(C): -40 to 85; Type: 3-State Output; Code_JEDEC: MS-012 variation AC; ComponentLink1Description: Manufacturer URL; ComponentLink1URL: http://www.ti.com/; ComponentLink2Description: Datasheet; ComponentLink2URL: http://www.ti.com/lit/ds/symlink/sn74hc257.pdf; ComponentLink3Description: Package Specification; ComponentLink3URL: http://www.ti.com/lit/ml/mpds178g/mpds178g.pdf
footprint D0016A_N (SOIC, 16-Leads, Body 10x4mm, Pitch 1.27mm, IPC Medium Density)
footprint D0016A_M (SOIC, 16-Leads, Body 10x4mm, Pitch 1.27mm, IPC Low Density)
footprint D0016A_L (SOIC, 16-Leads, Body 10x4mm, Pitch 1.27mm, IPC High Density)
pins: 1 ~{A}/B (in), 2 1A (in), 3 1B (in), 4 1Y (hiz), 5 2A (in), 6 2B (in), 7 2Y (hiz), 8 GND (power), 9 3Y (hiz), 10 3B (in), 11 3A (in), 12 4Y (hiz), 13 4B (in), 14 4A (in), 15 ~{G} (in), 16 VCC (power)

## SN74HC257N
designator U?
Quadruple 2-Line To 1-Line Data Selectors/Multiplexers With 3-State Outputs, N0016A, TUBE; Generic Part Number: SN74HC257; Manufacturer: Texas Instruments; PartNumber: SN74HC257N; VCC(Min)(V): 2; VCC(Max)(V): 6; Output Type: CMOS; Function: Encoder/Multiplexer; ICC @ Nom Voltage(Max)(mA): 0.08; Input Type: LVTTL/CMOS; F @ Nom Voltage(Max)(Mhz): 28; Configuration: 2：1; Channels(#): 4; Rating: Catalog; Technology Family: HC; Voltage(Nom)(V): 3.3,5; Schmitt Trigger: No; Output Drive (IOL/IOH)(Max)(mA): 7.8/-7.8; tpd @ Nom Voltage(Max)(ns): 25; DatasheetVersion: SCLS224B; PackageReference: N0016A; Supplier 1: Mouser; Supplier Part Number 1: 595-SN74HC257N; Supplier 2: Digi-Key; Supplier Part Number 2: 296-8285-5-ND; Bits(#): 2; Operating Temperature Range(C): -40 to 85; Type: 3-State Output; Code_JEDEC: MS-001; ComponentLink1Description: Manufacturer URL; ComponentLink1URL: http://www.ti.com/; ComponentLink2Description: Datasheet; ComponentLink2URL: http://www.ti.com/lit/ds/symlink/sn74hc257.pdf; ComponentLink3Description: Package Specification; ComponentLink3URL: http://www.ti.com/lit/ml/mpdi002c/mpdi002c.pdf
footprint N0016A (DIP, 16-Leads, Body 19.7x6.6mm, Pitch 2.54mm)
pins: 1 ~{A}/B (in), 2 1A (in), 3 1B (in), 4 1Y (hiz), 5 2A (in), 6 2B (in), 7 2Y (hiz), 8 GND (power), 9 3Y (hiz), 10 3B (in), 11 3A (in), 12 4Y (hiz), 13 4B (in), 14 4A (in), 15 ~{G} (in), 16 VCC (power)

## SN74HC257NSR
designator U?
Quadruple 2-Line To 1-Line Data Selectors/Multiplexers With 3-State Outputs, NS0016A, LARGE T&R; Generic Part Number: SN74HC257; Manufacturer: Texas Instruments; PartNumber: SN74HC257NSR; VCC(Min)(V): 2; VCC(Max)(V): 6; Output Type: CMOS; Function: Encoder/Multiplexer; ICC @ Nom Voltage(Max)(mA): 0.08; Input Type: LVTTL/CMOS; F @ Nom Voltage(Max)(Mhz): 28; Configuration: 2：1; Channels(#): 4; Rating: Catalog; Technology Family: HC; Voltage(Nom)(V): 3.3,5; Schmitt Trigger: No; Output Drive (IOL/IOH)(Max)(mA): 7.8/-7.8; tpd @ Nom Voltage(Max)(ns): 25; DatasheetVersion: SCLS224B; PackageReference: NS0016A; Supplier 1: Mouser; Supplier Part Number 1: 595-SN74HC257NSR; Supplier 2: Digi-Key; Supplier Part Number 2: 296-8286-2-ND; Supplier 3: Digi-Key; Supplier Part Number 3: 296-8286-1-ND; Supplier 4: Digi-Key; Supplier Part Number 4: 296-8286-6-ND; Bits(#): 2; Operating Temperature Range(C): -40 to 85; Type: 3-State Output; ComponentLink1Description: Manufacturer URL; ComponentLink1URL: http://www.ti.com/; ComponentLink2Description: Datasheet; ComponentLink2URL: http://www.ti.com/lit/ds/symlink/sn74hc257.pdf; ComponentLink3Description: Package Specification; ComponentLink3URL: http://www.ti.com/lit/ml/msop002a/msop002a.pdf
footprint NS0016A_N (SOIC,16-Leads,Body 10.5x5.6mm,Pitch 1.27mm,IPC Medium Density)
footprint NS0016A_M (SOIC,16-Leads,Body 10.5x5.6mm,Pitch 1.27mm,IPC Low Density)
footprint NS0016A_L (SOIC,16-Leads,Body 10.5x5.6mm,Pitch 1.27mm,IPC High Density)
pins: 1 ~{A}/B (in), 2 1A (in), 3 1B (in), 4 1Y (hiz), 5 2A (in), 6 2B (in), 7 2Y (hiz), 8 GND (power), 9 3Y (hiz), 10 3B (in), 11 3A (in), 12 4Y (hiz), 13 4B (in), 14 4A (in), 15 ~{G} (in), 16 VCC (power)

## SN74HC257PW
designator U?
Quadruple 2-Line To 1-Line Data Selectors/Multiplexers With 3-State Outputs, PW0016A, TUBE; Generic Part Number: SN74HC257; Manufacturer: Texas Instruments; PartNumber: SN74HC257PW; VCC(Min)(V): 2; VCC(Max)(V): 6; Output Type: CMOS; Function: Encoder/Multiplexer; ICC @ Nom Voltage(Max)(mA): 0.08; Input Type: LVTTL/CMOS; F @ Nom Voltage(Max)(Mhz): 28; Configuration: 2：1; Channels(#): 4; Rating: Catalog; Technology Family: HC; Voltage(Nom)(V): 3.3,5; Schmitt Trigger: No; Output Drive (IOL/IOH)(Max)(mA): 7.8/-7.8; tpd @ Nom Voltage(Max)(ns): 25; DatasheetVersion: SCLS224B; PackageReference: PW0016A; Supplier 1: Mouser; Supplier Part Number 1: 595-SN74HC257PW; Supplier 2: Digi-Key; Supplier Part Number 2: 296-33930-5-ND; Bits(#): 2; Operating Temperature Range(C): -40 to 85; Type: 3-State Output; Code_JEDEC: MO-153; ComponentLink1Description: Manufacturer URL; ComponentLink1URL: http://www.ti.com/; ComponentLink2Description: Datasheet; ComponentLink2URL: http://www.ti.com/lit/ds/symlink/sn74hc257.pdf; ComponentLink3Description: Package Specification; ComponentLink3URL: http://www.ti.com/lit/ml/mpds361/mpds361.pdf
footprint PW0016A_N (SOP, 16-Leads, Body 5.1x4.5mm, Pitch 0.65mm, IPC Medium Density)
footprint PW0016A_M (SOP, 16-Leads, Body 5.1x4.5mm, Pitch 0.65mm, IPC Low Density)
footprint PW0016A_L (SOP, 16-Leads, Body 5.1x4.5mm, Pitch 0.65mm, IPC High Density)
pins: 1 ~{A}/B (in), 2 1A (in), 3 1B (in), 4 1Y (hiz), 5 2A (in), 6 2B (in), 7 2Y (hiz), 8 GND (power), 9 3Y (hiz), 10 3B (in), 11 3A (in), 12 4Y (hiz), 13 4B (in), 14 4A (in), 15 ~{G} (in), 16 VCC (power)

## SN74HC257PWR
designator U?
Quadruple 2-Line To 1-Line Data Selectors/Multiplexers With 3-State Outputs, PW0016A, LARGE T&R; Generic Part Number: SN74HC257; Manufacturer: Texas Instruments; PartNumber: SN74HC257PWR; VCC(Min)(V): 2; VCC(Max)(V): 6; Output Type: CMOS; Function: Encoder/Multiplexer; ICC @ Nom Voltage(Max)(mA): 0.08; Input Type: LVTTL/CMOS; F @ Nom Voltage(Max)(Mhz): 28; Configuration: 2：1; Channels(#): 4; Rating: Catalog; Technology Family: HC; Voltage(Nom)(V): 3.3,5; Schmitt Trigger: No; Output Drive (IOL/IOH)(Max)(mA): 7.8/-7.8; tpd @ Nom Voltage(Max)(ns): 25; DatasheetVersion: SCLS224B; PackageReference: PW0016A; Supplier 1: Mouser; Supplier Part Number 1: 595-SN74HC257PWR; Supplier 2: Digi-Key; Supplier Part Number 2: 296-8287-2-ND; Supplier 3: Digi-Key; Supplier Part Number 3: 296-8287-1-ND; Supplier 4: Digi-Key; Supplier Part Number 4: 296-8287-6-ND; Bits(#): 2; Operating Temperature Range(C): -40 to 85; Type: 3-State Output; Code_JEDEC: MO-153; ComponentLink1Description: Manufacturer URL; ComponentLink1URL: http://www.ti.com/; ComponentLink2Description: Datasheet; ComponentLink2URL: http://www.ti.com/lit/ds/symlink/sn74hc257.pdf; ComponentLink3Description: Package Specification; ComponentLink3URL: http://www.ti.com/lit/ml/mpds361/mpds361.pdf
footprint PW0016A_N (SOP, 16-Leads, Body 5.1x4.5mm, Pitch 0.65mm, IPC Medium Density)
footprint PW0016A_M (SOP, 16-Leads, Body 5.1x4.5mm, Pitch 0.65mm, IPC Low Density)
footprint PW0016A_L (SOP, 16-Leads, Body 5.1x4.5mm, Pitch 0.65mm, IPC High Density)
pins: 1 ~{A}/B (in), 2 1A (in), 3 1B (in), 4 1Y (hiz), 5 2A (in), 6 2B (in), 7 2Y (hiz), 8 GND (power), 9 3Y (hiz), 10 3B (in), 11 3A (in), 12 4Y (hiz), 13 4B (in), 14 4A (in), 15 ~{G} (in), 16 VCC (power)

## SN74HC257PWT
designator U?
Quadruple 2-Line To 1-Line Data Selectors/Multiplexers With 3-State Outputs, PW0016A, SMALL T&R; Generic Part Number: SN74HC257; Manufacturer: Texas Instruments; PartNumber: SN74HC257PWT; VCC(Min)(V): 2; VCC(Max)(V): 6; Output Type: CMOS; Function: Encoder/Multiplexer; ICC @ Nom Voltage(Max)(mA): 0.08; Input Type: LVTTL/CMOS; F @ Nom Voltage(Max)(Mhz): 28; Configuration: 2：1; Channels(#): 4; Rating: Catalog; Technology Family: HC; Voltage(Nom)(V): 3.3,5; Schmitt Trigger: No; Output Drive (IOL/IOH)(Max)(mA): 7.8/-7.8; tpd @ Nom Voltage(Max)(ns): 25; DatasheetVersion: SCLS224B; PackageReference: PW0016A; Supplier 1: Mouser; Supplier Part Number 1: 595-SN74HC257PWT; Supplier 2: Digi-Key; Supplier Part Number 2: SN74HC257PWT-ND; Bits(#): 2; Operating Temperature Range(C): -40 to 85; Type: 3-State Output; Code_JEDEC: MO-153; ComponentLink1Description: Manufacturer URL; ComponentLink1URL: http://www.ti.com/; ComponentLink2Description: Datasheet; ComponentLink2URL: http://www.ti.com/lit/ds/symlink/sn74hc257.pdf; ComponentLink3Description: Package Specification; ComponentLink3URL: http://www.ti.com/lit/ml/mpds361/mpds361.pdf
footprint PW0016A_N (SOP, 16-Leads, Body 5.1x4.5mm, Pitch 0.65mm, IPC Medium Density)
footprint PW0016A_M (SOP, 16-Leads, Body 5.1x4.5mm, Pitch 0.65mm, IPC Low Density)
footprint PW0016A_L (SOP, 16-Leads, Body 5.1x4.5mm, Pitch 0.65mm, IPC High Density)
pins: 1 ~{A}/B (in), 2 1A (in), 3 1B (in), 4 1Y (hiz), 5 2A (in), 6 2B (in), 7 2Y (hiz), 8 GND (power), 9 3Y (hiz), 10 3B (in), 11 3A (in), 12 4Y (hiz), 13 4B (in), 14 4A (in), 15 ~{G} (in), 16 VCC (power)

## SN74HC258D
designator U?
Quadruple 2-Line To 1-Line Data Selectors/Multiplexers With 3-State Outputs, D0016A, TUBE; Generic Part Number: SN74HC258; Manufacturer: Texas Instruments; PartNumber: SN74HC258D; VCC(Min)(V): 2; VCC(Max)(V): 6; Output Type: CMOS; Function: Encoder/Multiplexer; ICC @ Nom Voltage(Max)(mA): 0.08; Input Type: LVTTL/CMOS; F @ Nom Voltage(Max)(Mhz): 28; Configuration: 2：1; Channels(#): 4; Rating: Catalog; Technology Family: HC; Voltage(Nom)(V): 3.3,5; Schmitt Trigger: No; Output Drive (IOL/IOH)(Max)(mA): 7.8/-7.8; tpd @ Nom Voltage(Max)(ns): 29; DatasheetVersion: SCLS224B; PackageReference: D0016A; Supplier 1: Mouser; Supplier Part Number 1: 595-SN74HC258D; Supplier 2: Digi-Key; Supplier Part Number 2: 296-11845-5-ND; Bits(#): 2; Operating Temperature Range(C): -40 to 85; Type: 3-State Output; Code_JEDEC: MS-012 variation AC; ComponentLink1Description: Manufacturer URL; ComponentLink1URL: http://www.ti.com/; ComponentLink2Description: Datasheet; ComponentLink2URL: http://www.ti.com/lit/ds/symlink/sn74hc258.pdf; ComponentLink3Description: Package Specification; ComponentLink3URL: http://www.ti.com/lit/ml/mpds178g/mpds178g.pdf
footprint D0016A_N (SOIC, 16-Leads, Body 10x4mm, Pitch 1.27mm, IPC Medium Density)
footprint D0016A_M (SOIC, 16-Leads, Body 10x4mm, Pitch 1.27mm, IPC Low Density)
footprint D0016A_L (SOIC, 16-Leads, Body 10x4mm, Pitch 1.27mm, IPC High Density)
pins: 1 ~{A}/B (in), 2 1A (in), 3 1B (in), 4 1Y (hiz), 5 2A (in), 6 2B (in), 7 2Y (hiz), 8 GND (power), 9 3Y (hiz), 10 3B (in), 11 3A (in), 12 4Y (hiz), 13 4B (in), 14 4A (in), 15 ~{G} (in), 16 VCC (power)

## SN74HC258DR
designator U?
Quadruple 2-Line To 1-Line Data Selectors/Multiplexers With 3-State Outputs, D0016A, LARGE T&R; Generic Part Number: SN74HC258; Manufacturer: Texas Instruments; PartNumber: SN74HC258DR; VCC(Min)(V): 2; VCC(Max)(V): 6; Output Type: CMOS; Function: Encoder/Multiplexer; ICC @ Nom Voltage(Max)(mA): 0.08; Input Type: LVTTL/CMOS; F @ Nom Voltage(Max)(Mhz): 28; Configuration: 2：1; Channels(#): 4; Rating: Catalog; Technology Family: HC; Voltage(Nom)(V): 3.3,5; Schmitt Trigger: No; Output Drive (IOL/IOH)(Max)(mA): 7.8/-7.8; tpd @ Nom Voltage(Max)(ns): 29; DatasheetVersion: SCLS224B; PackageReference: D0016A; Supplier 1: Mouser; Supplier Part Number 1: 595-SN74HC258DR; Supplier 2: Digi-Key; Supplier Part Number 2: SN74HC258DR-ND; Bits(#): 2; Operating Temperature Range(C): -40 to 85; Type: 3-State Output; Code_JEDEC: MS-012 variation AC; ComponentLink1Description: Manufacturer URL; ComponentLink1URL: http://www.ti.com/; ComponentLink2Description: Datasheet; ComponentLink2URL: http://www.ti.com/lit/ds/symlink/sn74hc258.pdf; ComponentLink3Description: Package Specification; ComponentLink3URL: http://www.ti.com/lit/ml/mpds178g/mpds178g.pdf
footprint D0016A_N (SOIC, 16-Leads, Body 10x4mm, Pitch 1.27mm, IPC Medium Density)
footprint D0016A_M (SOIC, 16-Leads, Body 10x4mm, Pitch 1.27mm, IPC Low Density)
footprint D0016A_L (SOIC, 16-Leads, Body 10x4mm, Pitch 1.27mm, IPC High Density)
pins: 1 ~{A}/B (in), 2 1A (in), 3 1B (in), 4 1Y (hiz), 5 2A (in), 6 2B (in), 7 2Y (hiz), 8 GND (power), 9 3Y (hiz), 10 3B (in), 11 3A (in), 12 4Y (hiz), 13 4B (in), 14 4A (in), 15 ~{G} (in), 16 VCC (power)

## SN74HC258N
designator U?
Quadruple 2-Line To 1-Line Data Selectors/Multiplexers With 3-State Outputs, N0016A, TUBE; Generic Part Number: SN74HC258; Manufacturer: Texas Instruments; PartNumber: SN74HC258N; VCC(Min)(V): 2; VCC(Max)(V): 6; Output Type: CMOS; Function: Encoder/Multiplexer; ICC @ Nom Voltage(Max)(mA): 0.08; Input Type: LVTTL/CMOS; F @ Nom Voltage(Max)(Mhz): 28; Configuration: 2：1; Channels(#): 4; Rating: Catalog; Technology Family: HC; Voltage(Nom)(V): 3.3,5; Schmitt Trigger: No; Output Drive (IOL/IOH)(Max)(mA): 7.8/-7.8; tpd @ Nom Voltage(Max)(ns): 29; DatasheetVersion: SCLS224B; PackageReference: N0016A; Supplier 1: Mouser; Supplier Part Number 1: 595-SN74HC258N; Supplier 2: Digi-Key; Supplier Part Number 2: 296-11844-5-ND; Bits(#): 2; Operating Temperature Range(C): -40 to 85; Type: 3-State Output; Code_JEDEC: MS-001; ComponentLink1Description: Manufacturer URL; ComponentLink1URL: http://www.ti.com/; ComponentLink2Description: Datasheet; ComponentLink2URL: http://www.ti.com/lit/ds/symlink/sn74hc258.pdf; ComponentLink3Description: Package Specification; ComponentLink3URL: http://www.ti.com/lit/ml/mpdi002c/mpdi002c.pdf
footprint N0016A (DIP, 16-Leads, Body 19.7x6.6mm, Pitch 2.54mm)
pins: 1 ~{A}/B (in), 2 1A (in), 3 1B (in), 4 1Y (hiz), 5 2A (in), 6 2B (in), 7 2Y (hiz), 8 GND (power), 9 3Y (hiz), 10 3B (in), 11 3A (in), 12 4Y (hiz), 13 4B (in), 14 4A (in), 15 ~{G} (in), 16 VCC (power)

## SN74HC258NSR
designator U?
Quadruple 2-Line To 1-Line Data Selectors/Multiplexers With 3-State Outputs, NS0016A, LARGE T&R; Generic Part Number: SN74HC258; Manufacturer: Texas Instruments; PartNumber: SN74HC258NSR; VCC(Min)(V): 2; VCC(Max)(V): 6; Output Type: CMOS; Function: Encoder/Multiplexer; ICC @ Nom Voltage(Max)(mA): 0.08; Input Type: LVTTL/CMOS; F @ Nom Voltage(Max)(Mhz): 28; Configuration: 2：1; Channels(#): 4; Rating: Catalog; Technology Family: HC; Voltage(Nom)(V): 3.3,5; Schmitt Trigger: No; Output Drive (IOL/IOH)(Max)(mA): 7.8/-7.8; tpd @ Nom Voltage(Max)(ns): 29; DatasheetVersion: SCLS224B; PackageReference: NS0016A; Supplier 1: Mouser; Supplier Part Number 1: 595-SN74HC258NSR; Supplier 2: Digi-Key; Supplier Part Number 2: SN74HC258NSR-ND; Bits(#): 2; Operating Temperature Range(C): -40 to 85; Type: 3-State Output; ComponentLink1Description: Manufacturer URL; ComponentLink1URL: http://www.ti.com/; ComponentLink2Description: Datasheet; ComponentLink2URL: http://www.ti.com/lit/ds/symlink/sn74hc258.pdf; ComponentLink3Description: Package Specification; ComponentLink3URL: http://www.ti.com/lit/ml/msop002a/msop002a.pdf
footprint NS0016A_N (SOIC,16-Leads,Body 10.5x5.6mm,Pitch 1.27mm,IPC Medium Density)
footprint NS0016A_M (SOIC,16-Leads,Body 10.5x5.6mm,Pitch 1.27mm,IPC Low Density)
footprint NS0016A_L (SOIC,16-Leads,Body 10.5x5.6mm,Pitch 1.27mm,IPC High Density)
pins: 1 ~{A}/B (in), 2 1A (in), 3 1B (in), 4 1Y (hiz), 5 2A (in), 6 2B (in), 7 2Y (hiz), 8 GND (power), 9 3Y (hiz), 10 3B (in), 11 3A (in), 12 4Y (hiz), 13 4B (in), 14 4A (in), 15 ~{G} (in), 16 VCC (power)

## SN74HC258PW
designator U?
Quadruple 2-Line To 1-Line Data Selectors/Multiplexers With 3-State Outputs, PW0016A, TUBE; Generic Part Number: SN74HC258; Manufacturer: Texas Instruments; PartNumber: SN74HC258PW; VCC(Min)(V): 2; VCC(Max)(V): 6; Output Type: CMOS; Function: Encoder/Multiplexer; ICC @ Nom Voltage(Max)(mA): 0.08; Input Type: LVTTL/CMOS; F @ Nom Voltage(Max)(Mhz): 28; Configuration: 2：1; Channels(#): 4; Rating: Catalog; Technology Family: HC; Voltage(Nom)(V): 3.3,5; Schmitt Trigger: No; Output Drive (IOL/IOH)(Max)(mA): 7.8/-7.8; tpd @ Nom Voltage(Max)(ns): 29; DatasheetVersion: SCLS224B; PackageReference: PW0016A; Supplier 1: Mouser; Supplier Part Number 1: 595-SN74HC258PW; Supplier 2: Digi-Key; Supplier Part Number 2: 296-33931-5-ND; Bits(#): 2; Operating Temperature Range(C): -40 to 85; Type: 3-State Output; Code_JEDEC: MO-153; ComponentLink1Description: Manufacturer URL; ComponentLink1URL: http://www.ti.com/; ComponentLink2Description: Datasheet; ComponentLink2URL: http://www.ti.com/lit/ds/symlink/sn74hc258.pdf; ComponentLink3Description: Package Specification; ComponentLink3URL: http://www.ti.com/lit/ml/mpds361/mpds361.pdf
footprint PW0016A_N (SOP, 16-Leads, Body 5.1x4.5mm, Pitch 0.65mm, IPC Medium Density)
footprint PW0016A_M (SOP, 16-Leads, Body 5.1x4.5mm, Pitch 0.65mm, IPC Low Density)
footprint PW0016A_L (SOP, 16-Leads, Body 5.1x4.5mm, Pitch 0.65mm, IPC High Density)
pins: 1 ~{A}/B (in), 2 1A (in), 3 1B (in), 4 1Y (hiz), 5 2A (in), 6 2B (in), 7 2Y (hiz), 8 GND (power), 9 3Y (hiz), 10 3B (in), 11 3A (in), 12 4Y (hiz), 13 4B (in), 14 4A (in), 15 ~{G} (in), 16 VCC (power)

## SN74HC258PWR
designator U?
Quadruple 2-Line To 1-Line Data Selectors/Multiplexers With 3-State Outputs, PW0016A, LARGE T&R; Generic Part Number: SN74HC258; Manufacturer: Texas Instruments; PartNumber: SN74HC258PWR; VCC(Min)(V): 2; VCC(Max)(V): 6; Output Type: CMOS; Function: Encoder/Multiplexer; ICC @ Nom Voltage(Max)(mA): 0.08; Input Type: LVTTL/CMOS; F @ Nom Voltage(Max)(Mhz): 28; Configuration: 2：1; Channels(#): 4; Rating: Catalog; Technology Family: HC; Voltage(Nom)(V): 3.3,5; Schmitt Trigger: No; Output Drive (IOL/IOH)(Max)(mA): 7.8/-7.8; tpd @ Nom Voltage(Max)(ns): 29; DatasheetVersion: SCLS224B; PackageReference: PW0016A; Supplier 1: Mouser; Supplier Part Number 1: 595-SN74HC258PWR; Supplier 2: Digi-Key; Supplier Part Number 2: SN74HC258PWR-ND; Bits(#): 2; Operating Temperature Range(C): -40 to 85; Type: 3-State Output; Code_JEDEC: MO-153; ComponentLink1Description: Manufacturer URL; ComponentLink1URL: http://www.ti.com/; ComponentLink2Description: Datasheet; ComponentLink2URL: http://www.ti.com/lit/ds/symlink/sn74hc258.pdf; ComponentLink3Description: Package Specification; ComponentLink3URL: http://www.ti.com/lit/ml/mpds361/mpds361.pdf
footprint PW0016A_N (SOP, 16-Leads, Body 5.1x4.5mm, Pitch 0.65mm, IPC Medium Density)
footprint PW0016A_M (SOP, 16-Leads, Body 5.1x4.5mm, Pitch 0.65mm, IPC Low Density)
footprint PW0016A_L (SOP, 16-Leads, Body 5.1x4.5mm, Pitch 0.65mm, IPC High Density)
pins: 1 ~{A}/B (in), 2 1A (in), 3 1B (in), 4 1Y (hiz), 5 2A (in), 6 2B (in), 7 2Y (hiz), 8 GND (power), 9 3Y (hiz), 10 3B (in), 11 3A (in), 12 4Y (hiz), 13 4B (in), 14 4A (in), 15 ~{G} (in), 16 VCC (power)

## SN74HC393D
designator U?
Dual 4-Bit Binary Counters, D0014A, TUBE; Generic Part Number: SN74HC393; Manufacturer: Texas Instruments; PartNumber: SN74HC393D; VCC(Min)(V): 2; VCC(Max)(V): 6; Output Type: CMOS; Inputs: 1; ICC @ Nom Voltage(Max)(mA): 0.08; Input Type: LVTTL/CMOS; Bits(#): 4; F @ Nom Voltage(Max)(Mhz): 28; Rating: Catalog; Technology Family: HC; Voltage(Nom)(V): 3.3,5; Schmitt Trigger: No; Output Drive (IOL/IOH)(Max)(mA): 5.2/-5.2; tpd @ Nom Voltage(Max)(ns): 62; DatasheetVersion: SCLS143D; PackageReference: D0014A; Supplier 1: Digi-Key; Supplier Part Number 1: 296-8317-5-ND; Function: Counter; Operating Temperature Range(C): -40 to 85; Type: Binary; Code_JEDEC: MS-012; ComponentLink1Description: Manufacturer URL; ComponentLink1URL: http://www.ti.com/; ComponentLink2Description: Datasheet; ComponentLink2URL: http://www.ti.com/lit/ds/symlink/sn74hc393.pdf; ComponentLink3Description: Package Specification; ComponentLink3URL: http://www.ti.com/lit/ml/mpds177g/mpds177g.pdf
footprint D0014A_N (SOIC, 14-Leads, Body 8.75x4mm, Pitch 1.27mm, IPC Medium Density)
footprint D0014A_M (SOIC, 14-Leads, Body 8.75x4mm, Pitch 1.27mm, IPC Low Density)
footprint D0014A_L (SOIC, 14-Leads, Body 8.75x4mm, Pitch 1.27mm, IPC High Density)
part A pins: 1 1CLK (in), 2 1CLR (in), 3 1QA (out), 4 1QB (out), 5 1QC (out), 6 1QD (out)
part B pins: 8 2QD (out), 9 2QC (out), 10 2QB (out), 11 2QA (out), 12 2CLR (in), 13 2CLK (in)
part C pins: 7 GND (power), 14 VCC (power)

## SN74HC393DBR
designator U?
Dual 4-Bit Binary Counters, DB0014A, LARGE T&R; Generic Part Number: SN74HC393; Manufacturer: Texas Instruments; PartNumber: SN74HC393DBR; VCC(Min)(V): 2; VCC(Max)(V): 6; Output Type: CMOS; Inputs: 1; ICC @ Nom Voltage(Max)(mA): 0.08; Input Type: LVTTL/CMOS; Bits(#): 4; F @ Nom Voltage(Max)(Mhz): 28; Rating: Catalog; Technology Family: HC; Voltage(Nom)(V): 3.3,5; Schmitt Trigger: No; Output Drive (IOL/IOH)(Max)(mA): 5.2/-5.2; tpd @ Nom Voltage(Max)(ns): 62; DatasheetVersion: SCLS143D; PackageReference: DB0014A; Supplier 1: Mouser; Supplier Part Number 1: 595-SN74HC393DBR; Supplier 2: Digi-Key; Supplier Part Number 2: 296-8318-2-ND; Supplier 3: Digi-Key; Supplier Part Number 3: 296-8318-1-ND; Supplier 4: Digi-Key; Supplier Part Number 4: 296-8318-6-ND; Function: Counter; Operating Temperature Range(C): -40 to 85; Type: Binary; Code_JEDEC: MO-150; ComponentLink1Description: Manufacturer URL; ComponentLink1URL: http://www.ti.com/; ComponentLink2Description: Datasheet; ComponentLink2URL: http://www.ti.com/lit/ds/symlink/sn74hc393.pdf; ComponentLink3Description: Package Specification; ComponentLink3URL: http://www.ti.com/lit/ml/msso002e/msso002e.pdf
footprint DB0014A_N (SOP, 14-Leads, Body 5.6x6.5mm, Pitch 0.65mm, IPC Medium Density)
footprint DB0014A_M (SOP, 14-Leads, Body 5.6x6.5mm, Pitch 0.65mm, IPC Low Density)
footprint DB0014A_L (SOP, 14-Leads, Body 5.6x6.5mm, Pitch 0.65mm, IPC High Density)
part A pins: 1 1CLK (in), 2 1CLR (in), 3 1QA (out), 4 1QB (out), 5 1QC (out), 6 1QD (out)
part B pins: 8 2QD (out), 9 2QC (out), 10 2QB (out), 11 2QA (out), 12 2CLR (in), 13 2CLK (in)
part C pins: 7 GND (power), 14 VCC (power)